# Altium schematic symbol library PIF_HC05.SchLib: 1 symbol
Pins are listed as number, name and electrical type; pins without a type are passive.

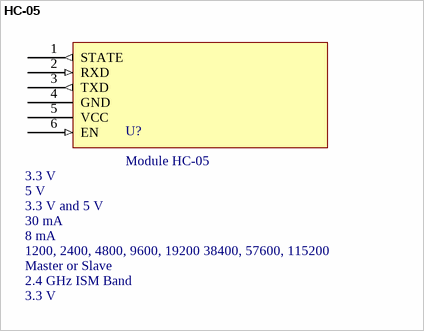
[diagram p0: symbol HC-05]

## HC-05
designator U?, comment Module HC-05  Voltage - Min: 3.3 V  Voltage - Max: 5 V  TTL Voltage Level: 3.3 V and 5 V  Current - Pairing Mode: 30 mA  Current - Normal Mode: 8 mA  UART Baudrate: 1200, 2400, 4800, 9600, 19200 38400, 57600, 115200  Mode: Master or Slave  Frequency: 2.4 GHz ISM Band
bluetooth module HC-05; EN pin Voltage Level: 3.3 V
footprint PCBComponent_1
pins: 1 STATE (out), 2 RXD (in), 3 TXD (out), 4 GND (power), 5 VCC (power), 6 EN (in)